# EAGLE library part TUSB1210BRHBR (library circuit_tree)
IC
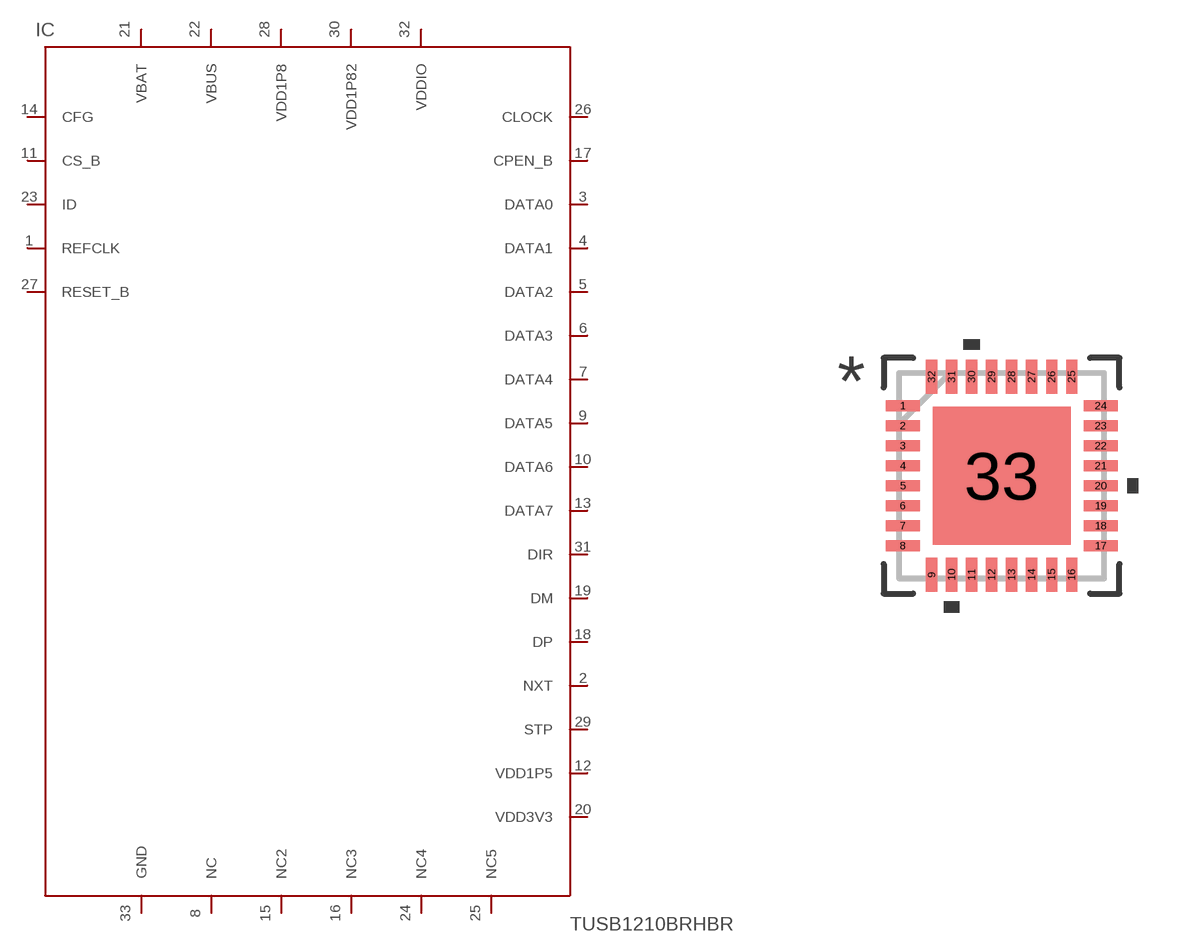
[diagram p10: symbol with the pads of RHB32_3P45X3P45; footprint RHB32_3P45X3P45]

Designator prefix IC

## TUSB1210BRHBR  [RHB32_3P45X3P45]
1  REFCLK  pas
2  NXT  pas
3  DATA0  pas
4  DATA1  pas
5  DATA2  pas
6  DATA3  pas
7  DATA4  pas
8  NC  pas
9  DATA5  pas
10  DATA6  pas
11  CS_B  pas
12  VDD1P5  pas
13  DATA7  pas
14  CFG  pas
15  NC2  pas
16  NC3  pas
17  CPEN_B  pas
18  DP  pas
19  DM  pas
20  VDD3V3  pas
21  VBAT  pas
22  VBUS  pas
23  ID  pas
24  NC4  pas
25  NC5  pas
26  CLOCK  pas
27  RESET_B  pas
28  VDD1P8  pas
29  STP  pas
30  VDD1P82  pas
31  DIR  pas
32  VDDIO  pas
33  GND  pas

## Footprint RHB32_3P45X3P45 (pad centres in mm)
smd 0.85 x 0.28: 1 -2.475,1.75; 2 -2.475,1.25; 3 -2.475,0.75; 4 -2.475,0.25; 5 -2.475,-0.25; 6 -2.475,-0.75; 7 -2.475,-1.25; 8 -2.475,-1.75; 17 2.475,-1.75; 18 2.475,-1.25; 19 2.475,-0.75; 20 2.475,-0.25; 21 2.475,0.25; 22 2.475,0.75; 23 2.475,1.25; 24 2.475,1.75
smd 0.28 x 0.85: 9 -1.75,-2.475; 10 -1.25,-2.475; 11 -0.75,-2.475; 12 -0.25,-2.475; 13 0.25,-2.475; 14 0.75,-2.475; 15 1.25,-2.475; 16 1.75,-2.475; 25 1.75,2.475; 26 1.25,2.475; 27 0.75,2.475; 28 0.25,2.475; 29 -0.25,2.475; 30 -0.75,2.475; 31 -1.25,2.475; 32 -1.75,2.475
smd 3.45 x 3.45: 33 0,0